# Altium footprint library Terminal_Block2P.PCBLIB: 1 footprints
Each footprint in its own frame and in the unit in brackets; x right, y up, seen from the top. Pads: shape width x height; smd on the part's side, far side on the other; paste and mask are expansions set on the pad; w line width, h text height; cw(c..) or ccw(c..) is an arc to the next point about the centre after c.
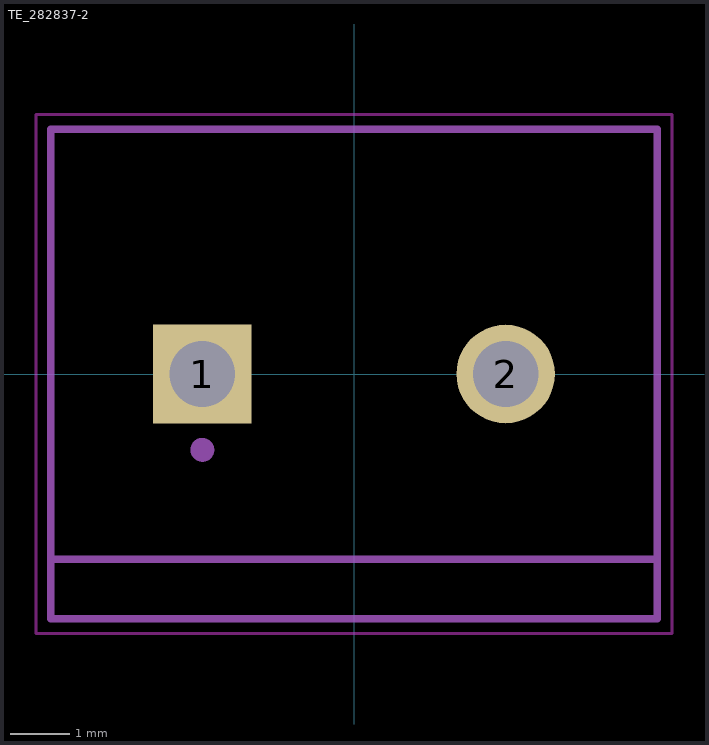
[diagram p0: the footprint, top view; thin cyan lines are the x and y axes]

## TE_282837-2 [mil]
pads (2):
  rect 64.97x64.97 / inner round 60.02 / far side rect 64.97x64.97 hole 43.31: 1(-100,0)
  round 64.97 hole 43.31: 2(100,0)
Top keep-out:
  lines w1.97: -209.84,-171.26 209.84,-171.26 209.84,171.26 -209.84,171.26 -209.84,-171.26
tDocu:
  circle w7.87: c-100,-50 r3.94
  lines w5: -200,-161.42 200,-161.42 200,161.42 -200,161.42 -200,-161.42
tPlace:
  lines w5: -200,-122.05 -200,-161.42 200,-161.42 200,-122.05 ; -200,-122.05 -200,161.42 200,161.42 200,-122.05 ; -200,-122.05 200,-122.05